# Altium schematic symbol library bluetooth.SchLib: 3 symbols
Pins are listed as number, name and electrical type; pins without a type are passive.

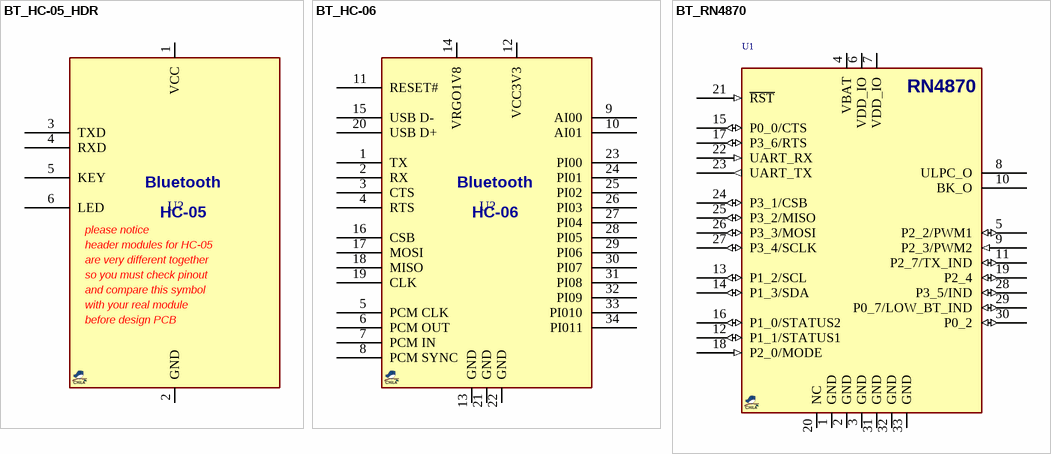
[diagram p0: symbols BT_HC-05_HDR to BT_RN4870]

## BT_HC-05_HDR
designator U?, comment HC-05  (value not drawn)
Bluetooth Module, 2Mbps, 8Mb flash, 3.1~4.2V; MANF: -; MANF_P#: HC-05; PARAM2: 3.1~4.2V; VALUE: HC-05
footprint BT_HC05_HDR (Bluetooth HC-05)
pins: 1 VCC, 2 GND, 3 TXD, 4 RXD, 5 KEY, 6 LED
text: Bluetooth; please notice; header modules for HC-05; are very different together; so you must check pinout; and compare this symbol; with your real module; before design PCB

## BT_HC-06
designator U?, comment HC-06  (value not drawn)
Bluetooth Module, 2Mbps, 8Mb flash, 3.1~4.2V; MANF: Guangzhou; MANF_P#: HC-06; PARAM2: 3.1~4.2V; VALUE: HC-06
footprint BT_HC06 (Bluetooth HC-06)
pins: 1 TX, 2 RX, 3 CTS, 4 RTS, 5 PCM CLK, 6 PCM OUT, 7 PCM IN, 8 PCM SYNC, 9 AI00, 10 AI01, 11 RESET#, 12 VCC3V3, 13 GND, 14 VRGO1V8, 15 USB D-, 16 CSB, 17 MOSI, 18 MISO, 19 CLK, 20 USB D+, 21 GND, 22 GND, 23 PI00, 24 PI01, 25 PI02, 26 PI03, 27 PI04, 28 PI05, 29 PI06, 30 PI07, 31 PI08, 32 PI09, 33 PI010, 34 PI011
text: Bluetooth

## BT_RN4870
designator U1, comment RN4870-V/RM118  (value not drawn)
Bluetooth Bluetooth v4.2 Transceiver Module 2.4GHz Integrated,1.9V ~ 3.6V .; Value: RN4870; MANF: MICROCHIP; MANF_P#: RN4870-V/RM118
footprint RN4870A
pins: 1 GND (power), 2 GND (power), 3 GND (power), 4 VBAT (power), 5 P2_2/PWM1 (io), 6 VDD_IO (power), 7 VDD_IO (power), 8 ULPC_O, 9 P2_3/PWM2 (in), 10 BK_O, 11 P2_7/TX_IND (io), 12 P1_1/STATUS1 (io), 13 P1_2/SCL (io), 14 P1_3/SDA (io), 15 P0_0/CTS (io), 16 P1_0/STATUS2 (io), 17 P3_6/RTS (io), 18 P2_0/MODE (in), 19 P2_4 (io), 20 NC, 21 ~{RST} (in), 22 UART_RX (in), 23 UART_TX (out), 24 P3_1/CSB (io), 25 P3_2/MISO (io), 26 P3_3/MOSI (io), 27 P3_4/SCLK (io), 28 P3_5/IND (io), 29 P0_7/LOW_BT_IND (io), 30 P0_2 (io), 31 GND (power), 32 GND (power), 33 GND (power)
1 alternate drawing of the same symbol